# EAGLE library part ILI9341 (library Juan_pedometer)
ILI9341 LCD based on the 2.8" Adafruit product
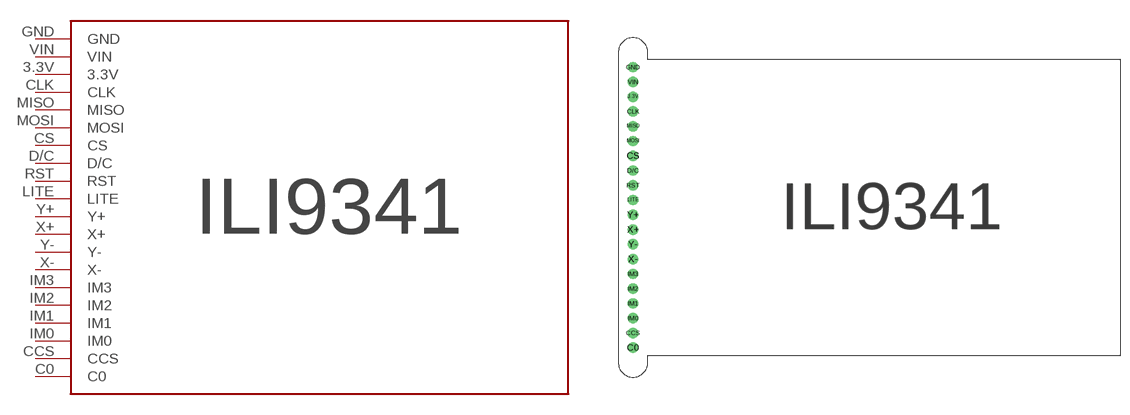
[diagram p5: symbol with the pads of ILI9341; footprint ILI9341]

Designator prefix B

## ILI9341  [ILI9341]
3.3V  3.3V
C0  C0
CCS  CCS
CLK  CLK
CS  CS
D/C  D/C
GND  GND
IM0  IM0
IM1  IM1
IM2  IM2
IM3  IM3
LITE  LITE
MISO  MISO
MOSI  MOSI
RST  RST
VIN  VIN
X+  X+
X-  X-
Y+  Y+
Y-  Y-

## Footprint ILI9341 (pad centres in mm)
drill 1.016 pad 1.778: 3.3V 0,-5.08; C0 0,-48.26; CCS 0,-45.72; CLK 0,-7.62; CS 0,-15.24; D/C 0,-17.78; GND 0,0; IM0 0,-43.18; IM1 0,-40.64; IM2 0,-38.1; IM3 0,-35.56; LITE 0,-22.86; MISO 0,-10.16; MOSI 0,-12.7; RST 0,-20.32; VIN 0,-2.54; X+ 0,-27.94; X- 0,-33.02; Y+ 0,-25.4; Y- 0,-30.48